# Altium footprint library PcbLib.PcbLib: 36 footprints (part 2 of 3)
Each footprint in its own frame and in the unit in brackets; x right, y up, seen from the top. Pads: shape width x height; smd on the part's side, far side on the other; paste and mask are expansions set on the pad; w line width, h text height; cw(c..) or ccw(c..) is an arc to the next point about the centre after c.
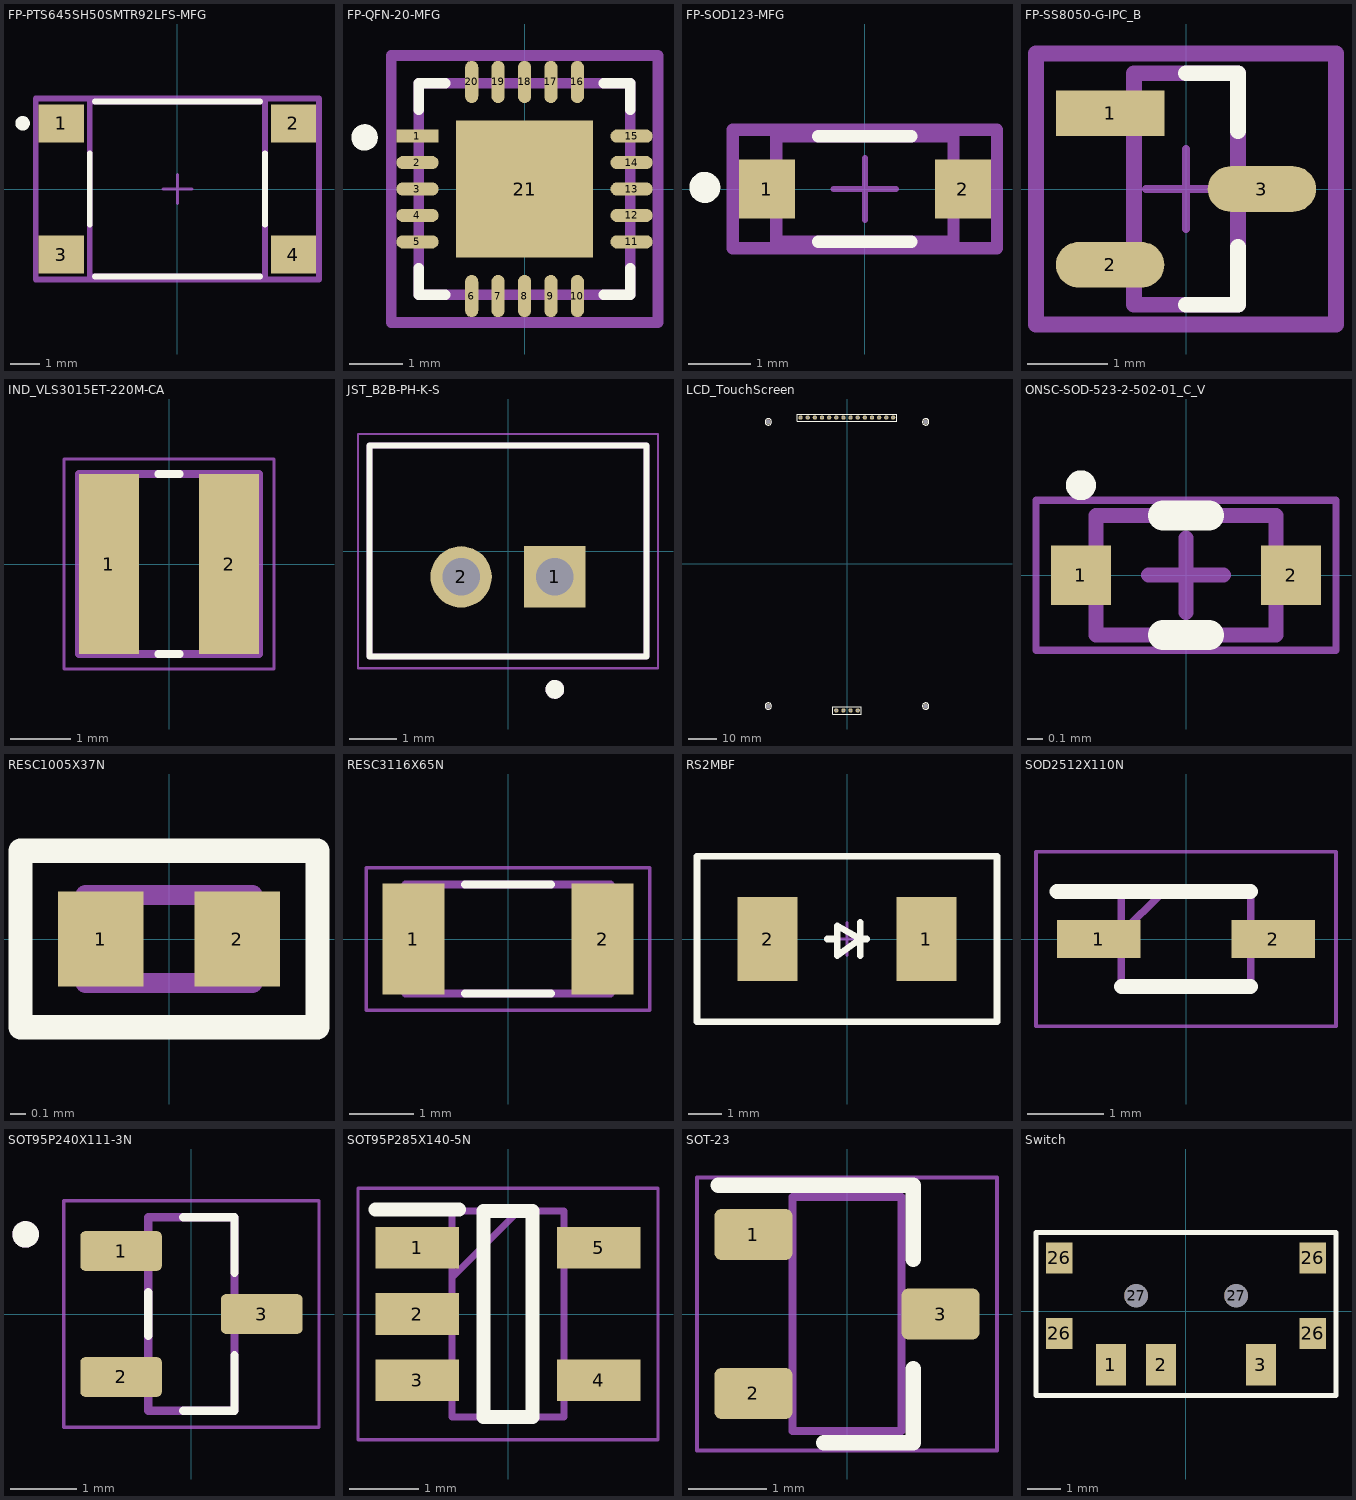
[diagram p1: the footprints below, top view; thin cyan lines are the x and y axes]

## FP-PTS645SH50SMTR92LFS-MFG [mm]
pads (4):
  rect 1.55x1.3 smd paste+0 mask+0: 1(-3.975,2.25) 2(3.975,2.25) 3(-3.975,-2.25) 4(3.975,-2.25)
Top Overlay:
  circle w0.25: c-5.3,2.25 r0.125
  lines w0.2: -3,-1.225 -3,1.225 ; -2.825,-3 2.825,-3 ; -2.825,3 2.825,3 ; 3,-1.225 3,1.225
Top Assembly:
  lines w0.2: -4.85,-3.1 -4.85,3.1 4.85,3.1 4.85,-3.1 -4.85,-3.1
  text ".Designator" at 0,0.188 h1
Top 3D Body:
  lines w0.2: -3,-3 -3,3 3,3 3,-3 -3,-3
Top Courtyard:
  lines w0.2: -4.85,-3.1 -4.85,3.1 4.85,3.1 4.85,-3.1 -4.85,-3.1
Top Component Center:
  lines w0.1: -0.5,0 0.5,0 ; 0,-0.5 0,0.5
3D body "PTS645SL43SMTR92-LFS.STEP": height 4.3, standoff 0, extent -4.5,-3 4.5,3

## FP-QFN-20-MFG [mm]
pads (21):
  rect 0.8x0.25 smd paste+0 mask+0: 1(-2.025,1)
  rrect100% 0.8x0.25 smd paste+0 mask+0: 2(-2.025,0.5) 3(-2.025,0) 4(-2.025,-0.5) 5(-2.025,-1) 11(2.025,-1) 12(2.025,-0.5) 13(2.025,0) 14(2.025,0.5) 15(2.025,1)
  rrect100% 0.25x0.8 smd paste+0 mask+0: 6(-1,-2.025) 7(-0.5,-2.025) 8(0,-2.025) 9(0.5,-2.025) 10(1,-2.025) 16(1,2.025) 17(0.5,2.025) 18(0,2.025) 19(-0.5,2.025) 20(-1,2.025)
  rect 2.6x2.6 smd paste+0 mask+0: 21(0,0)
Top Overlay:
  circle w0.25: c-3.025,0.975 r0.125
  lines w0.2: -2,-1.5 -2,-2 -1.5,-2 ; -2,1.5 -2,2 -1.5,2 ; 1.5,-2 2,-2 2,-1.5 ; 1.5,2 2,2 2,1.5
Top Assembly:
  lines w0.2: -2.525,-2.525 -2.525,2.525 2.525,2.525 2.525,-2.525 -2.525,-2.525
  text ".Designator" at 0,0.188 h1
Top 3D Body:
  lines w0.2: -2,-2 -2,2 2,2 2,-2 -2,-2
Top Courtyard:
  lines w0.2: -2.525,-2.525 -2.525,2.525 2.525,2.525 2.525,-2.525 -2.525,-2.525
Top Component Center:
  lines w0.1: -0.5,0 0.5,0 ; 0,-0.5 0,0.5
3D body "IC_FTDI_FT231XQ-R_eec.STEP": height 0.25, standoff 0, extent -2.525,-2.525 2.525,2.525

## FP-SOD123-MFG [mm]
pads (2):
  rect 0.9x0.95 smd paste+0 mask+0: 1(-1.575,0) 2(1.575,0)
Top Overlay:
  circle w0.25: c-2.575,0.025 r0.125
  lines w0.2: -0.75,-0.85 0.75,-0.85 ; -0.75,0.85 0.75,0.85
Top Assembly:
  lines w0.2: -2.125,-0.95 -2.125,0.95 2.125,0.95 2.125,-0.95 -2.125,-0.95
  text ".Designator" at 0,-0.001 h1
Top 3D Body:
  lines w0.2: -1.425,-0.85 -1.425,0.85 1.425,0.85 1.425,-0.85 -1.425,-0.85
Top Courtyard:
  lines w0.2: -2.125,-0.95 -2.125,0.95 2.125,0.95 2.125,-0.95 -2.125,-0.95
Top Component Center:
  lines w0.1: -0.5,0 0.5,0 ; 0,-0.5 0,0.5
3D body "Diode_Diodes_Inc_MMSZ5245B-7-F_eec.STEP": height 0.25, standoff 0, extent -2.125,-0.95 2.125,0.95

## FP-SS8050-G-IPC_B [mm]
pads (3):
  rect 1.357x0.572 smd paste+0 mask+0: 1(-0.951,0.95)
  rrect100% 1.357x0.572 smd paste+0 mask+0: 2(-0.951,-0.95) 3(0.951,0)
Top Overlay:
  lines w0.2: 0,-1.45 0.65,-1.45 0.65,-0.725 ; 0,1.45 0.65,1.45 0.65,0.725
Top Assembly:
  lines w0.2: -1.879,-1.7 -1.879,1.7 1.879,1.7 1.879,-1.7 -1.879,-1.7
  text ".Designator" at 0,-0.001 h1
Top 3D Body:
  lines w0.2: -0.65,-1.45 -0.65,1.45 0.65,1.45 0.65,-1.45 -0.65,-1.45
Top Courtyard:
  lines w0.2: -1.879,-1.7 -1.879,1.7 1.879,1.7 1.879,-1.7 -1.879,-1.7
Top Component Center:
  lines w0.1: -0.5,0 0.5,0 ; 0,-0.5 0,0.5
3D body "Trans_Comchip_SS8050-G_eec.STEP": height 0.25, standoff 0, extent -1.879,-1.7 1.879,1.7

## IND_VLS3015ET-220M-CA [mm]
height 1.5
pads (2):
  rect 1x3 smd: 1(-1,0) 2(1,0)
Top Overlay:
  lines w0.127: -0.18,-1.5 0.18,-1.5 ; -0.18,1.5 0.18,1.5
Top 3D Body:
  lines w0.127: -1.5,-1.5 1.5,-1.5 1.5,1.5 -1.5,1.5 -1.5,-1.5
Top Courtyard:
  lines w0.05: -1.75,-1.75 1.75,-1.75 1.75,1.75 -1.75,1.75 -1.75,-1.75
3D body "step_temp.STEP": height 1.5, standoff 0, extent -1.5,-1.5 1.5,1.5

## JST_B2B-PH-K-S [mm]
pads (2):
  rect 1.308x1.308 / inner round 1.308 / far side rect 1.308x1.308 hole 0.8: 1(1,-0.55)
  round 1.308 hole 0.8: 2(-1,-0.55)
Top Overlay:
  circle w0.2: c1,-2.95 r0.1
  lines w0.127: -2.95,-2.25 -2.95,2.25 2.95,2.25 2.95,-2.25 -2.95,-2.25
Top 3D Body:
  circle w0.2: c1,-2.95 r0.1
  lines w0.127: -2.95,-2.25 2.95,-2.25 2.95,2.25 -2.95,2.25 -2.95,-2.25
Top Courtyard:
  lines w0.05: -3.2,-2.5 3.2,-2.5 3.2,2.5 -3.2,2.5 -3.2,-2.5
3D body "step_temp.STEP": height 6, standoff -3.4, extent -2.95,-2.25 2.95,2.25

## LCD_TouchScreen [mil]
pads (22):
  round 60 hole 30: 1(550,2050) 2(646.04,2050) 3(450,2050) 4(350,2050) 5(250,2050) 6(150,2050) 7(50,2050) 8(-50,2050) 9(-150,2050) 10(-350,2050) 11(-250,2050) 12(-450,2050) 13(-550,2050) 14(-650,2050) 15(-150,-2050) 16(-50,-2050) 17(50,-2050) 18(150,-2050)
  round 66.93 hole 62.99: 21(-1101.81,-1989.37) 21(-1101.81,1989.37) 21(1101.81,-1989.37) 21(1101.81,1989.37)
Top Overlay:
  circle w10: c-1101.81,1989.37 r45
  circle w10: c1101.81,1989.37 r45
  circle w10: c1101.81,-1989.37 r45
  circle w10: c-1101.81,-1989.37 r45
  lines w5.91: -700,2000 -700,2100 700,2100 700,2000 -700,2000 ; -200,-2100.14 201.01,-2100.14 201.01,-2000 -200,-2000 -200,-2100.14
3D body "ST7796SDisplay.step": height 350.39, standoff -226.77, extent -1211.92,-2101.31 1219.19,2111.29

## ONSC-SOD-523-2-502-01_C_V [mm] "SOD, 2-Leads, Body 1.2x0.8mm"
height 0.7
pads (2):
  rect 0.4x0.4 smd: 1(-0.7,0) 2(0.7,0)
Top Overlay:
  circle w0.1: c-0.7,0.6 r0.05
  lines w0.2: -0.154,-0.4 0.154,-0.4 ; -0.154,0.4 0.154,0.4
Top 3D Body:
  lines w0.1: -0.6,-0.4 0.6,-0.4 0.6,0.4 -0.6,0.4 -0.6,-0.4
Top Courtyard:
  lines w0.05: -1,-0.5 1,-0.5 1,0.5 -1,0.5 -1,-0.5
  lines w0.1: -0.25,0 0.25,0 ; 0,-0.25 0,0.25
3D body: height 0.7, standoff 0, extent -0.6,-0.4 0.6,0.4

## RESC1005X37N [mm]
pads (2):
  rect 0.54x0.6 smd: 1(-0.432,0) 2(0.432,0)
Top Overlay:
  lines w0.152: -0.94,-0.559 -0.94,0.559 -0.711,0.559 0.94,0.559 0.94,0.533 0.94,-0.559 -0.94,-0.559
Top 3D Body:
  lines w0.127: -0.53,-0.28 -0.53,0.28 0.53,0.28 0.53,-0.28 -0.53,-0.28
Top Courtyard:
  lines w0.05: -0.95,-0.55 -0.95,0.55 0.95,0.55 0.95,-0.55 -0.95,-0.55
3D body "step_temp.STEP": height 0.37, standoff 0, extent -0.5,-0.25 0.5,0.25

## RESC3116X65N [mm]
pads (2):
  rect 0.97x1.73 smd: 1(-1.48,0) 2(1.48,0)
Top Overlay:
  lines w0.127: -0.67,-0.85 0.67,-0.85 ; -0.67,0.85 0.67,0.85
Top 3D Body:
  lines w0.127: -1.6,-0.85 -1.6,0.85 1.6,0.85 1.6,-0.85 -1.6,-0.85
Top Courtyard:
  lines w0.05: -2.215,-1.115 -2.215,1.115 2.215,1.115 2.215,-1.115 -2.215,-1.115
3D body "RC1206FR-074M99L.STEP": height 0.65, standoff 0, extent -1.546,-0.796 1.554,0.804

## RS2MBF [mm]
pads (2):
  rect 1.8x2.54 smd: 1(2.4,0) 2(-2.4,0)
Top Overlay:
  lines w0.2: -0.6,0 -0.3,0 ; 0.4,-0.5 0.4,0.5 ; 0.6,0 0.4,0 ; 0.4,0 -0.3,0.4 -0.3,-0.5 0.4,0 ; -4.53,-2.5 4.53,-2.5 4.53,2.5 -4.53,2.5 -4.53,0 -4.53,-2.5
Top Courtyard:
  lines w0.1: -0.5,0 0.5,0 ; 0,-0.5 0,0.5
3D body "MBRS240LT3G.stp": height 2.47, standoff 0, extent -2.702,-1.813 2.702,1.813

## SOD2512X110N [mm]
pads (2):
  rect 1.1x0.5 smd: 1(-1.15,0) 2(1.15,0)
Top Overlay:
  lines w0.2: -1.7,0.625 0.85,0.625 ; -0.85,-0.625 0.85,-0.625
Top Courtyard:
  lines w0.1: -0.85,0.075 -0.3,0.625 ; -0.85,-0.625 0.85,-0.625 0.85,0.625 -0.85,0.625 -0.85,-0.625
Bottom Assembly:
  lines w0.05: -1.975,-1.15 1.975,-1.15 1.975,1.15 -1.975,1.15 -1.975,-1.15
3D body "PMEG4010BEA,115.stp": height 0.92, standoff -0.01, extent -1.245,-0.59 1.243,0.66

## SOT95P240X111-3N [mm]
height 1.11
pads (3):
  rrect25% 1.23x0.6 smd: 1(-1.06,0.95) 2(-1.06,-0.95) 3(1.06,0)
Top Overlay:
  circle w0.2: c-2.5,1.2 r0.1
  lines w0.127: -0.65,-0.33 -0.65,0.33 ; -0.125,-1.46 0.65,-1.46 0.65,-0.62 ; -0.125,1.46 0.65,1.46 0.65,0.62
Top 3D Body:
  circle w0.2: c-2.5,1.2 r0.1
  lines w0.127: -0.65,-1.46 -0.65,1.46 0.65,1.46 0.65,-1.46 -0.65,-1.46
Top Courtyard:
  lines w0.05: -1.925,-1.71 1.925,-1.71 1.925,1.71 -1.925,1.71 -1.925,-1.71
3D body "2N7002.STEP": height 1.3, standoff 0, extent -1.3,-1.525 1.3,1.515

## SOT95P285X140-5N [mm]
pads (5):
  rect 1.2x0.6 smd: 1(-1.3,0.95) 2(-1.3,0) 3(-1.3,-0.95) 4(1.3,-0.95) 5(1.3,0.95)
Top Overlay:
  lines w0.2: -1.9,1.5 -0.7,1.5 ; -0.35,-1.475 -0.35,1.475 0.35,1.475 0.35,-1.475 -0.35,-1.475
Top Courtyard:
  lines w0.1: -0.8,0.525 0.15,1.475 ; -0.8,-1.475 -0.8,1.475 0.8,1.475 0.8,-1.475 -0.8,-1.475
Bottom Assembly:
  lines w0.05: -2.15,-1.8 -2.15,1.8 2.15,1.8 2.15,-1.8 -2.15,-1.8
3D body "SMD_IC_SY8089AAAC.stp": height 1.4, standoff 0, extent -1.425,-1.475 1.425,1.475

## SOT-23 [mm] "SOT23, 3-Leads, IPC Medium Density, TO-236"
height 1.1
pads (3):
  rrect25% 1x0.65 smd: 1(-1.2,1.02) 2(-1.2,-1.02) 3(1.2,0)
Top Overlay:
  lines w0.2: -1.65,1.65 0.85,1.65 0.85,0.7 ; -0.3,-1.65 0.85,-1.65 0.85,-0.7
Top 3D Body:
  lines w0.1: -0.7,-1.5 0.7,-1.5 0.7,1.5 -0.7,1.5 -0.7,-1.5
Top Courtyard:
  lines w0.05: -1.925,-1.75 1.925,-1.75 1.925,1.75 -1.925,1.75 -1.925,-1.75
3D body "2N7002.STEP": height 1.3, standoff 0, extent -1.325,-1.525 1.275,1.515

## Switch [mm]
pads (9):
  rect 0.9x1.25 smd: 1(-2.25,-1.605) 2(-0.75,-1.605) 3(2.25,-1.605)
  rect 0.8x0.93 smd: 26(-3.8,-0.665) 26(-3.8,1.605) 26(3.8,-0.665) 26(3.8,1.605)
  round 0.7 hole 0.705: 27(-1.5,0.47) 27(1.5,0.47)
Top Overlay:
  lines w0.15: -4.5,-2.53 -4.5,2.37 4.5,2.37 4.5,-2.53 -2.6,-2.53 -4.5,-2.53
3D body "mkswitch.STEP": height 1.4, standoff -0.55, extent -3.95,-2.025 3.95,3.37